# EAGLE library part 6567-VIC-II (library crasbe)
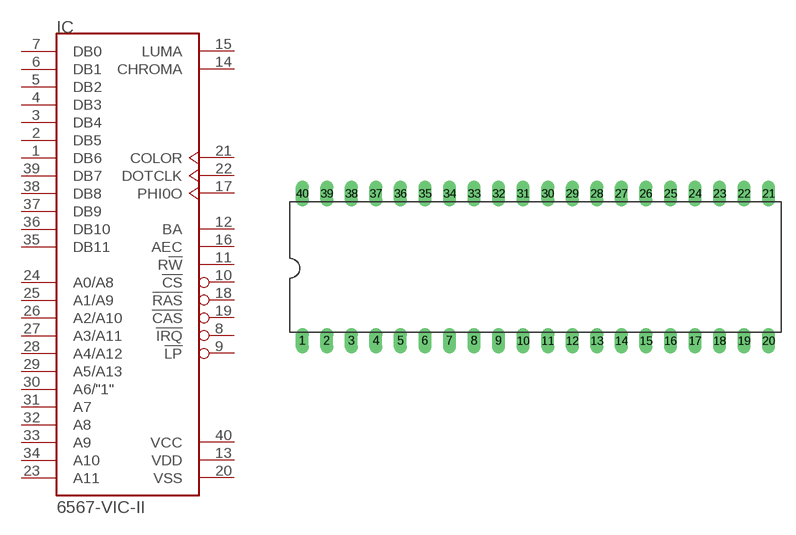
[diagram p14: symbol with the pads of DIL40; footprint DIL40]

Designator prefix IC

## 6567-VIC-II  [DIL40]
1  DB6
2  DB5
3  DB4
4  DB3
5  DB2
6  DB1
7  DB0
8  !IRQ  out
9  !LP  in
10  !CS  in
11  R!W
12  BA  out
13  VDD  pwr
14  CHROMA  out
15  LUMA  out
16  AEC  out
17  PHI0O  out
18  !RAS  out
19  !CAS  out
20  VSS  pwr
21  COLOR  in
22  DOTCLK  in
23  A11
24  A0/A8
25  A1/A9
26  A2/A10
27  A3/A11
28  A4/A12
29  A5/A13
30  A6/"1"
31  A7
32  A8
33  A9
34  A10
35  DB11
36  DB10
37  DB9
38  DB8
39  DB7
40  VCC  pwr

## Footprint DIL40 (pad centres in mm)
drill 0.813 long: 1 -24.13,-7.62; 2 -21.59,-7.62; 3 -19.05,-7.62; 4 -16.51,-7.62; 5 -13.97,-7.62; 6 -11.43,-7.62; 7 -8.89,-7.62; 8 -6.35,-7.62; 9 -3.81,-7.62; 10 -1.27,-7.62; 11 1.27,-7.62; 12 3.81,-7.62; 13 6.35,-7.62; 14 8.89,-7.62; 15 11.43,-7.62; 16 13.97,-7.62; 17 16.51,-7.62; 18 19.05,-7.62; 19 21.59,-7.62; 20 24.13,-7.62; 21 24.13,7.62; 22 21.59,7.62; 23 19.05,7.62; 24 16.51,7.62; 25 13.97,7.62; 26 11.43,7.62; 27 8.89,7.62; 28 6.35,7.62; 29 3.81,7.62; 30 1.27,7.62; 31 -1.27,7.62; 32 -3.81,7.62; 33 -6.35,7.62; 34 -8.89,7.62; 35 -11.43,7.62; 36 -13.97,7.62; 37 -16.51,7.62; 38 -19.05,7.62; 39 -21.59,7.62; 40 -24.13,7.62